# Altium schematic symbol library LTST-C195KGJRKT.SchLib: 1 symbol
Pins are listed as number, name and electrical type; pins without a type are passive.

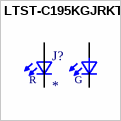
[diagram p0: symbol LTST-C195KGJRKT]

## LTST-C195KGJRKT
designator J?
MF: {'manufacturer': u'Lite-On Electronics'}; MP: LTST-C195KGJRKT; Package: None; Price: None; Value: *; Availability: Unavailable
footprint LTST-BILED-15X16
pins: P$1 A1, P$2 A2, P$3 K1, P$4 K2
text: R; G